# Altium schematic symbol library SMF6P5CA.SchLib: 2 symbols
Pins are listed as number, name and electrical type; pins without a type are passive.

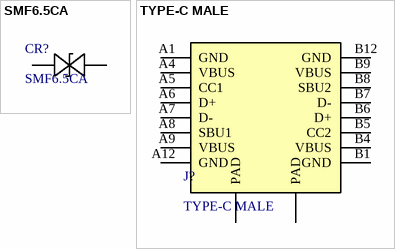
[diagram p0: symbols SMF6.5CA to TYPE-C MALE]

## SMF6.5CA
designator CR?
Description; Manufacturer_Name: Littelfuse Inc; Copyright: Copyright (C) 2026 Ultra Librarian. All rights reserved.; Manufacturer_Part_Number: SMF6.5CA
footprint SOD-123F_LTF
pins: 1, 2

## TYPE-C MALE
designator J?
pins: A1 GND, A4 VBUS, A5 CC1, A6 D+, A7 D-, A8 SBU1, A9 VBUS, A12 GND, B1 GND, B4 VBUS, B5 CC2, B6 D+, B7 D-, B8 SBU2, B9 VBUS, B12 GND, P1 PAD, P2 PAD